# EAGLE library part AUDIOFX (library jos-ph)
Adafruit SFX Audio Board with 2x2W Amplifier https://www.adafruit.com/products/2210
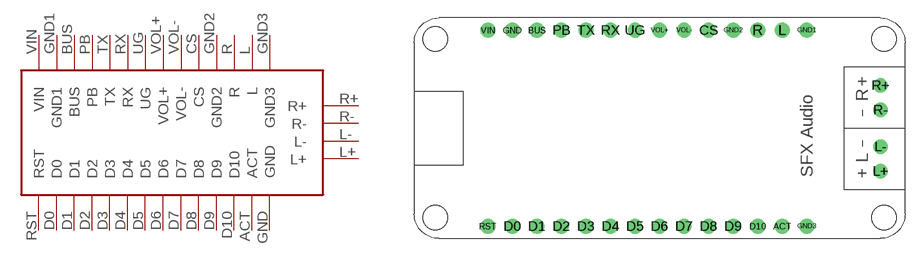
[diagram p1: symbol with the pads of AUDIOFX-2X2; footprint AUDIOFX-2X2]

Designator prefix -

## AUDIOFX  [AUDIOFX-2X2]
ACT  ACT
BUS  BUS
CS  CS
D0  D0
D1  D1
D2  D2
D3  D3
D4  D4
D5  D5
D6  D6
D7  D7
D8  D8
D9  D9
D10  D10
GND  GND
GND1  GND1
GND2  GND2
GND3  GND3
L  L
L+  L+
L-  L-
PB  PB
R  R
R+  R+
R-  R-
RST  RST
RX  RX
TX  TX
UG  UG
VIN  VIN
VOL+  VOL+
VOL-  VOL-

## Footprint AUDIOFX-2X2 (pad centres in mm)
Adafruit Audio SFX Sound Board + 2x2W Amplifier --- https://www.adafruit.com/products/2210
drill 1.016: ACT 15.24,-11.43; BUS -10.16,8.89; CS 7.62,8.89; D0 -12.7,-11.43; D1 -10.16,-11.43; D2 -7.62,-11.43; D3 -5.08,-11.43; D4 -2.54,-11.43; D5 0,-11.43; D6 2.54,-11.43; D7 5.08,-11.43; D8 7.62,-11.43; D9 10.16,-11.43; D10 12.7,-11.43; GND -12.7,8.89; GND1 17.78,8.89; GND2 10.16,8.89; GND3 17.78,-11.43; L 15.24,8.89; L+ 25.4,-5.715; L- 25.4,-3.175; PB -7.62,8.89; R 12.7,8.89; R+ 25.4,3.175; R- 25.4,0.635; RST -15.24,-11.43; RX -2.54,8.89; TX -5.08,8.89; UG 0,8.89; VIN -15.24,8.89; VOL+ 2.54,8.89; VOL- 5.08,8.89
hole 2.54 at -20.701,8.001
hole 2.54 at 25.781,8.001
hole 2.54 at -20.701,-10.541
hole 2.54 at 25.781,-10.541